# EAGLE library part KXTC9-2050-FR:10-VFLGA (library rebelstack)
+/- 2g Tri-axis Analog Accelerometer, 10-VFLGA
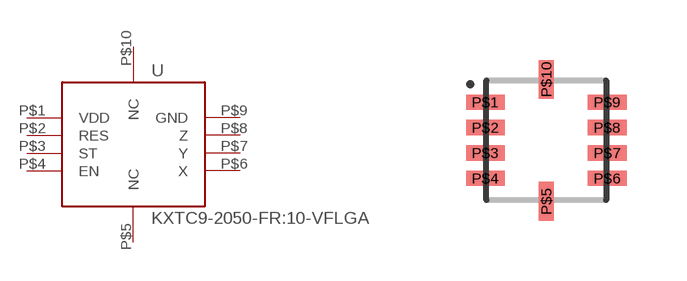
[diagram p1: symbol with the pads of 10-VFLGA; footprint 10-VFLGA]

Designator prefix U

## KXTC9-2050-FR:10-VFLGA (DISTRIBUTOR: Digi-key; DISTRIBUTOR_PN: 1191-1005-1-ND)  [10-VFLGA]
P$1  VDD  pwr
P$2  RES  pas
P$3  ST  pas
P$4  EN  pas
P$5  NC
P$6  X  out
P$7  Y  out
P$8  Z  out
P$9  GND  pwr
P$10  NC

## Footprint 10-VFLGA (pad centres in mm)
10-Lead Very Thin Fine Pitch Land Grid Array
smd 0.965 x 0.381: P$1 -1.524,0.953; P$2 -1.524,0.318; P$3 -1.524,-0.318; P$4 -1.524,-0.953; P$6 1.524,-0.953; P$7 1.524,-0.318; P$8 1.524,0.318; P$9 1.524,0.953
smd 0.381 x 0.965: P$5 0,-1.524; P$10 0,1.524